# EAGLE library part MCP2515 (library mcp2515)
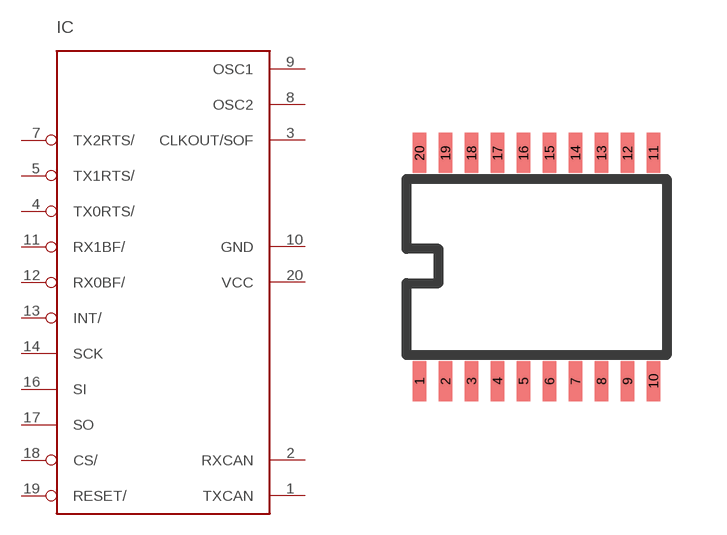
[diagram p0: symbol with the pads of TSSOP; footprint TSSOP]

Designator prefix IC

## MCP2515  [TSSOP]
1  TXCAN
2  RXCAN
3  CLKOUT/SOF
4  TX0RTS/
5  TX1RTS/
7  TX2RTS/
8  OSC2
9  OSC1
10  GND  sup
11  RX1BF/
12  RX0BF/
13  INT/  out
14  SCK  in
16  SI  in
17  SO  out
18  CS/  in
19  RESET/  in
20  VCC  sup

## Footprint TSSOP (pad centres in mm)
smd 0.34 x 1: 1 -2.925,-2.85; 2 -2.275,-2.85; 3 -1.625,-2.85; 4 -0.975,-2.85; 5 -0.325,-2.85; 6 0.325,-2.85; 7 0.975,-2.85; 8 1.625,-2.85; 9 2.275,-2.85; 10 2.925,-2.85; 11 2.925,2.85; 12 2.275,2.85; 13 1.625,2.85; 14 0.975,2.85; 15 0.325,2.85; 16 -0.325,2.85; 17 -0.975,2.85; 18 -1.625,2.85; 19 -2.275,2.85; 20 -2.925,2.85